# Altium schematic symbol library S3B-XH-A(LF)(SN).SchLib: 1 symbol
Pins are listed as number, name and electrical type; pins without a type are passive.

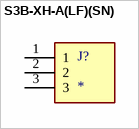
[diagram p0: symbol S3B-XH-A(LF)(SN)]

## S3B-XH-A(LF)(SN)
designator J?
Connector Header Through Hole, Right Angle 3 position 0.098" (2.50mm); MP: S3B-XH-A(LF)(SN); MF: {'manufacturer': u'JST Sales America Inc.'}; Availability: Unavailable; Value: *; Package: None; Price: None
footprint JST_S3B-XH-A(LF)(SN)
pins: 1, 2, 3